# Altium schematic symbol library jlcpcb_2025_04_inductors_extended_0201.schlib: 459 symbols (part 8 of 9)
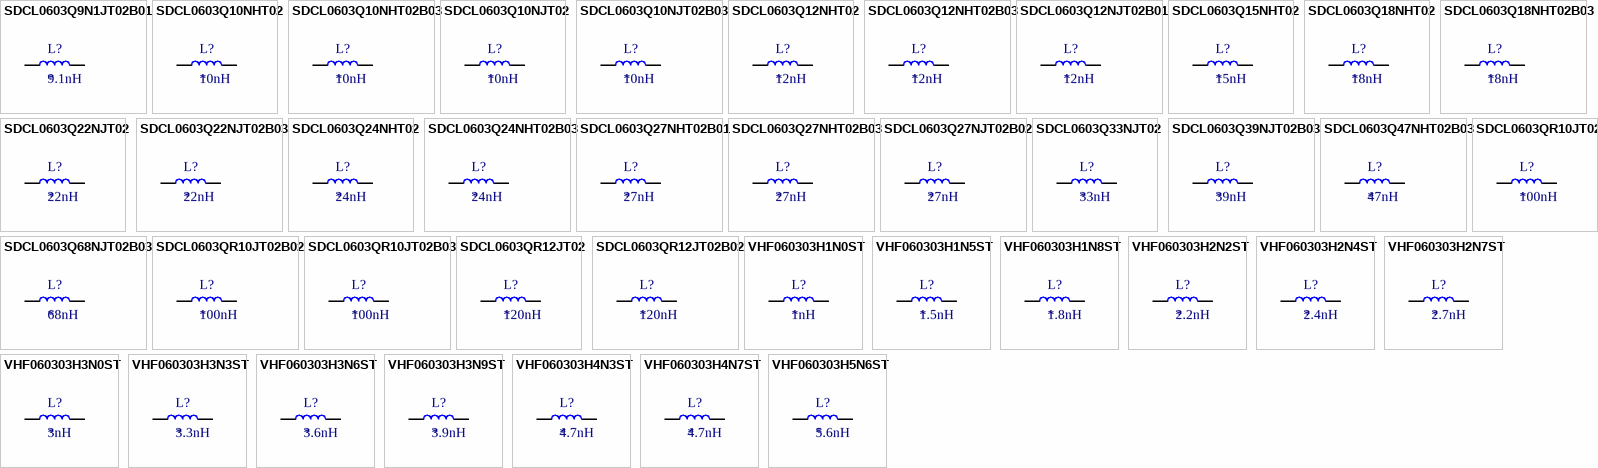
[diagram p18: symbols SDCL0603Q9N1JT02B01 to VHF060303H5N6ST]

## VHF060303H2N2ST
designator L?  Inductance: 2.2nH
Inductor, 2.2nH, 190mΩ, 360mA, SMD 0201; Manufacturer: FH (Guangdong Fenghua Advanced Tech); Manufacturer Part Number: VHF060303H2N2ST; Package Size: 0201; JLCPCB Basic Part: No; JLCPCB Part Number: C142497; Supplier 1: LCSC; Category: Inductors; Supplier Part Number 1: C142497; Rated Current: 360mA; DC Resistance: 190mΩ; RoHS: Yes; ComponentLink1Description: Datasheet; ComponentLink1URL: https://wmsc.lcsc.com/wmsc/upload/file/pdf/v2/lcsc/2304140030_FH--Guangdong-Fenghua-Advanced-Tech-VHF060303H2N2ST_C142497.pdf; ComponentLink2Description: JLCPCB Part URL; ComponentLink2URL: https://jlcpcb.com/partdetail/C142497; ComponentLink3Description: LCSC Part URL; ComponentLink3URL: https://lcsc.com/product-detail/Inductors-SMD_FH-Guangdong-Fenghua-Advanced-Tech-FH-Guangdong-Fenghua-Advanced-Tech-VHF060303H2N2ST_C142497.html
footprint IND-0201 (0201 (0603M) Inductor)
pins: 1, 2

## VHF060303H2N4ST
designator L?  Inductance: 2.4nH
Inductor, 2.4nH, 200mΩ, 350mA, SMD 0201; Manufacturer: FH(Guangdong Fenghua Advanced Tech); Manufacturer Part Number: VHF060303H2N4ST; Package Size: 0201; JLCPCB Basic Part: No; JLCPCB Part Number: C142498; Supplier 1: LCSC; Category: Inductors; Supplier Part Number 1: C142498; Rated Current: 350mA; DC Resistance: 200mΩ; RoHS: Yes; ComponentLink1Description: Datasheet; ComponentLink1URL: https://wmsc.lcsc.com/wmsc/upload/file/pdf/v2/lcsc/2304140030_FH--Guangdong-Fenghua-Advanced-Tech-VHF060303H2N4ST_C142498.pdf; ComponentLink2Description: JLCPCB Part URL; ComponentLink2URL: https://jlcpcb.com/partdetail/C142498; ComponentLink3Description: LCSC Part URL; ComponentLink3URL: https://lcsc.com/product-detail/Inductors-SMD_FH-Guangdong-Fenghua-Advanced-Tech-FH-Guangdong-Fenghua-Advanced-Tech-VHF060303H2N4ST_C142498.html
footprint IND-0201 (0201 (0603M) Inductor)
pins: 1, 2

## VHF060303H2N7ST
designator L?  Inductance: 2.7nH
Inductor, 2.7nH, 210mΩ, 340mA, SMD 0201; Manufacturer: FH(Guangdong Fenghua Advanced Tech); Manufacturer Part Number: VHF060303H2N7ST; Package Size: 0201; JLCPCB Basic Part: No; JLCPCB Part Number: C142499; Supplier 1: LCSC; Category: Inductors; Supplier Part Number 1: C142499; Rated Current: 340mA; DC Resistance: 210mΩ; RoHS: Yes; ComponentLink1Description: Datasheet; ComponentLink1URL: https://wmsc.lcsc.com/wmsc/upload/file/pdf/v2/lcsc/2304140030_FH--Guangdong-Fenghua-Advanced-Tech-VHF060303H2N7ST_C142499.pdf; ComponentLink2Description: JLCPCB Part URL; ComponentLink2URL: https://jlcpcb.com/partdetail/C142499; ComponentLink3Description: LCSC Part URL; ComponentLink3URL: https://lcsc.com/product-detail/Inductors-SMD_FH-Guangdong-Fenghua-Advanced-Tech-FH-Guangdong-Fenghua-Advanced-Tech-VHF060303H2N7ST_C142499.html
footprint IND-0201 (0201 (0603M) Inductor)
pins: 1, 2

## VHF060303H3N0ST
designator L?  Inductance: 3nH
Inductor, 3nH, 220mΩ, 330mA, SMD 0201; Manufacturer: FH(Guangdong Fenghua Advanced Tech); Manufacturer Part Number: VHF060303H3N0ST; Package Size: 0201; JLCPCB Basic Part: No; JLCPCB Part Number: C142500; Supplier 1: LCSC; Category: Inductors; Supplier Part Number 1: C142500; Rated Current: 330mA; DC Resistance: 220mΩ; RoHS: Yes; ComponentLink1Description: Datasheet; ComponentLink1URL: https://wmsc.lcsc.com/wmsc/upload/file/pdf/v2/lcsc/2304140030_FH--Guangdong-Fenghua-Advanced-Tech-VHF060303H3N0ST_C142500.pdf; ComponentLink2Description: JLCPCB Part URL; ComponentLink2URL: https://jlcpcb.com/partdetail/C142500; ComponentLink3Description: LCSC Part URL; ComponentLink3URL: https://lcsc.com/product-detail/Inductors-SMD_FH-Guangdong-Fenghua-Advanced-Tech-FH-Guangdong-Fenghua-Advanced-Tech-VHF060303H3N0ST_C142500.html
footprint IND-0201 (0201 (0603M) Inductor)
pins: 1, 2

## VHF060303H3N3ST
designator L?  Inductance: 3.3nH
Inductor, 3.3nH, 230mΩ, 320mA, SMD 0201; Manufacturer: FH(Guangdong Fenghua Advanced Tech); Manufacturer Part Number: VHF060303H3N3ST; Package Size: 0201; JLCPCB Basic Part: No; JLCPCB Part Number: C142501; Supplier 1: LCSC; Category: Inductors; Supplier Part Number 1: C142501; Rated Current: 320mA; DC Resistance: 230mΩ; RoHS: Yes; ComponentLink1Description: Datasheet; ComponentLink1URL: https://wmsc.lcsc.com/wmsc/upload/file/pdf/v2/lcsc/2304140030_FH--Guangdong-Fenghua-Advanced-Tech-VHF060303H3N3ST_C142501.pdf; ComponentLink2Description: JLCPCB Part URL; ComponentLink2URL: https://jlcpcb.com/partdetail/C142501; ComponentLink3Description: LCSC Part URL; ComponentLink3URL: https://lcsc.com/product-detail/Inductors-SMD_FH-Guangdong-Fenghua-Advanced-Tech-FH-Guangdong-Fenghua-Advanced-Tech-VHF060303H3N3ST_C142501.html
footprint IND-0201 (0201 (0603M) Inductor)
pins: 1, 2

## VHF060303H3N6ST
designator L?  Inductance: 3.6nH
Inductor, 3.6nH, 250mΩ, 310mA, SMD 0201; Manufacturer: FH(Guangdong Fenghua Advanced Tech); Manufacturer Part Number: VHF060303H3N6ST; Package Size: 0201; JLCPCB Basic Part: No; JLCPCB Part Number: C142502; Supplier 1: LCSC; Category: Inductors; Supplier Part Number 1: C142502; Rated Current: 310mA; DC Resistance: 250mΩ; RoHS: Yes; ComponentLink1Description: Datasheet; ComponentLink1URL: https://wmsc.lcsc.com/wmsc/upload/file/pdf/v2/lcsc/2304140030_FH--Guangdong-Fenghua-Advanced-Tech-VHF060303H3N6ST_C142502.pdf; ComponentLink2Description: JLCPCB Part URL; ComponentLink2URL: https://jlcpcb.com/partdetail/C142502; ComponentLink3Description: LCSC Part URL; ComponentLink3URL: https://lcsc.com/product-detail/Inductors-SMD_FH-Guangdong-Fenghua-Advanced-Tech-FH-Guangdong-Fenghua-Advanced-Tech-VHF060303H3N6ST_C142502.html
footprint IND-0201 (0201 (0603M) Inductor)
pins: 1, 2

## VHF060303H3N9ST
designator L?  Inductance: 3.9nH
Inductor, 3.9nH, 270mΩ, 300mA, SMD 0201; Manufacturer: FH(Guangdong Fenghua Advanced Tech); Manufacturer Part Number: VHF060303H3N9ST; Package Size: 0201; JLCPCB Basic Part: No; JLCPCB Part Number: C142503; Supplier 1: LCSC; Category: Inductors; Supplier Part Number 1: C142503; Rated Current: 300mA; DC Resistance: 270mΩ; RoHS: Yes; ComponentLink1Description: Datasheet; ComponentLink1URL: https://wmsc.lcsc.com/wmsc/upload/file/pdf/v2/lcsc/2304140030_FH--Guangdong-Fenghua-Advanced-Tech-VHF060303H3N9ST_C142503.pdf; ComponentLink2Description: JLCPCB Part URL; ComponentLink2URL: https://jlcpcb.com/partdetail/C142503; ComponentLink3Description: LCSC Part URL; ComponentLink3URL: https://lcsc.com/product-detail/Inductors-SMD_FH-Guangdong-Fenghua-Advanced-Tech-FH-Guangdong-Fenghua-Advanced-Tech-VHF060303H3N9ST_C142503.html
footprint IND-0201 (0201 (0603M) Inductor)
pins: 1, 2

## VHF060303H4N3ST
designator L?  Inductance: 4.7nH
Inductor, 4.7nH, 300mΩ, 280mA, SMD 0201; Manufacturer: FH(Guangdong Fenghua Advanced Tech); Manufacturer Part Number: VHF060303H4N3ST; Package Size: 0201; JLCPCB Basic Part: No; JLCPCB Part Number: C142504; Supplier 1: LCSC; Category: Inductors; Supplier Part Number 1: C142504; Rated Current: 280mA; DC Resistance: 300mΩ; RoHS: Yes; ComponentLink1Description: Datasheet; ComponentLink1URL: https://wmsc.lcsc.com/wmsc/upload/file/pdf/v2/lcsc/2304140030_FH--Guangdong-Fenghua-Advanced-Tech-VHF060303H4N3ST_C142504.pdf; ComponentLink2Description: JLCPCB Part URL; ComponentLink2URL: https://jlcpcb.com/partdetail/C142504; ComponentLink3Description: LCSC Part URL; ComponentLink3URL: https://lcsc.com/product-detail/Inductors-SMD_FH-Guangdong-Fenghua-Advanced-Tech-FH-Guangdong-Fenghua-Advanced-Tech-VHF060303H4N3ST_C142504.html
footprint IND-0201 (0201 (0603M) Inductor)
pins: 1, 2

## VHF060303H4N7ST
designator L?  Inductance: 4.7nH
Inductor, 4.7nH, 300mΩ, 280mA, SMD 0201; Manufacturer: FH(Guangdong Fenghua Advanced Tech); Manufacturer Part Number: VHF060303H4N7ST; Package Size: 0201; JLCPCB Basic Part: No; JLCPCB Part Number: C142505; Supplier 1: LCSC; Category: Inductors; Supplier Part Number 1: C142505; Rated Current: 280mA; DC Resistance: 300mΩ; RoHS: Yes; ComponentLink1Description: Datasheet; ComponentLink1URL: https://wmsc.lcsc.com/wmsc/upload/file/pdf/v2/lcsc/2304140030_FH--Guangdong-Fenghua-Advanced-Tech-VHF060303H4N7ST_C142505.pdf; ComponentLink2Description: JLCPCB Part URL; ComponentLink2URL: https://jlcpcb.com/partdetail/C142505; ComponentLink3Description: LCSC Part URL; ComponentLink3URL: https://lcsc.com/product-detail/Inductors-SMD_FH-Guangdong-Fenghua-Advanced-Tech-FH-Guangdong-Fenghua-Advanced-Tech-VHF060303H4N7ST_C142505.html
footprint IND-0201 (0201 (0603M) Inductor)
pins: 1, 2

## VHF060303H5N6ST
designator L?  Inductance: 5.6nH
Inductor, 5.6nH, 360mΩ, 260mA, SMD 0201; Manufacturer: FH(Guangdong Fenghua Advanced Tech); Manufacturer Part Number: VHF060303H5N6ST; Package Size: 0201; JLCPCB Basic Part: No; JLCPCB Part Number: C142507; Supplier 1: LCSC; Category: Inductors; Supplier Part Number 1: C142507; Rated Current: 260mA; DC Resistance: 360mΩ; RoHS: Yes; ComponentLink1Description: Datasheet; ComponentLink1URL: https://wmsc.lcsc.com/wmsc/upload/file/pdf/v2/lcsc/2304140030_FH--Guangdong-Fenghua-Advanced-Tech-VHF060303H5N6ST_C142507.pdf; ComponentLink2Description: JLCPCB Part URL; ComponentLink2URL: https://jlcpcb.com/partdetail/C142507; ComponentLink3Description: LCSC Part URL; ComponentLink3URL: https://lcsc.com/product-detail/Inductors-SMD_FH-Guangdong-Fenghua-Advanced-Tech-FH-Guangdong-Fenghua-Advanced-Tech-VHF060303H5N6ST_C142507.html
footprint IND-0201 (0201 (0603M) Inductor)
pins: 1, 2

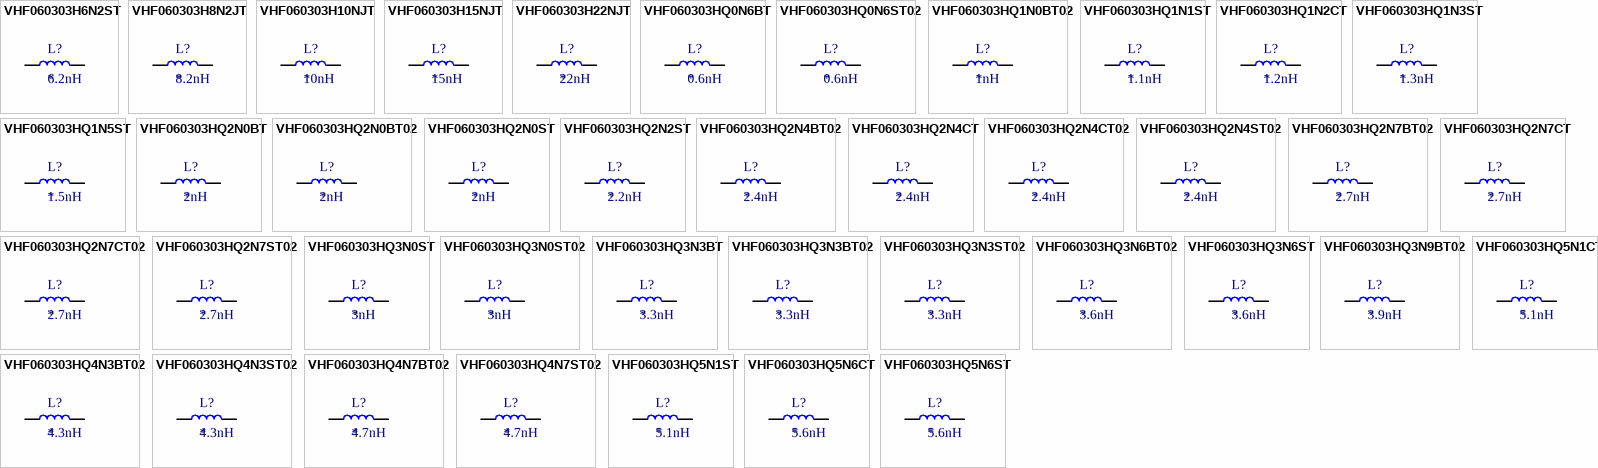
[diagram p10: symbols VHF060303H6N2ST to VHF060303HQ5N6ST]

## VHF060303H6N2ST
designator L?  Inductance: 6.2nH
Inductor, 6.2nH, 380mΩ, 250mA, SMD 0201; Manufacturer: FH(Guangdong Fenghua Advanced Tech); Manufacturer Part Number: VHF060303H6N2ST; Package Size: 0201; JLCPCB Basic Part: No; JLCPCB Part Number: C142508; Supplier 1: LCSC; Category: Inductors; Supplier Part Number 1: C142508; Rated Current: 250mA; DC Resistance: 380mΩ; RoHS: Yes; ComponentLink1Description: Datasheet; ComponentLink1URL: https://wmsc.lcsc.com/wmsc/upload/file/pdf/v2/lcsc/2304140030_FH--Guangdong-Fenghua-Advanced-Tech-VHF060303H6N2ST_C142508.pdf; ComponentLink2Description: JLCPCB Part URL; ComponentLink2URL: https://jlcpcb.com/partdetail/C142508; ComponentLink3Description: LCSC Part URL; ComponentLink3URL: https://lcsc.com/product-detail/Inductors-SMD_FH-Guangdong-Fenghua-Advanced-Tech-FH-Guangdong-Fenghua-Advanced-Tech-VHF060303H6N2ST_C142508.html
footprint IND-0201 (0201 (0603M) Inductor)
pins: 1, 2

## VHF060303H8N2JT
designator L?  Inductance: 8.2nH
Inductor, 8.2nH, ±5%, 450mΩ, 230mA, SMD 0201; Manufacturer: FH(Guangdong Fenghua Advanced Tech); Manufacturer Part Number: VHF060303H8N2JT; Package Size: 0201; JLCPCB Basic Part: No; JLCPCB Part Number: C142511; Supplier 1: LCSC; Category: Inductors; Supplier Part Number 1: C142511; Tolerance: ±5%; Rated Current: 230mA; DC Resistance: 450mΩ; RoHS: Yes; ComponentLink1Description: Datasheet; ComponentLink1URL: https://wmsc.lcsc.com/wmsc/upload/file/pdf/v2/lcsc/2304140030_FH--Guangdong-Fenghua-Advanced-Tech-VHF060303H8N2JT_C142511.pdf; ComponentLink2Description: JLCPCB Part URL; ComponentLink2URL: https://jlcpcb.com/partdetail/C142511; ComponentLink3Description: LCSC Part URL; ComponentLink3URL: https://lcsc.com/product-detail/Inductors-SMD_FH-Guangdong-Fenghua-Advanced-Tech-FH-Guangdong-Fenghua-Advanced-Tech-VHF060303H8N2JT_C142511.html
footprint IND-0201 (0201 (0603M) Inductor)
pins: 1, 2

## VHF060303H10NJT
designator L?  Inductance: 10nH
Inductor, 10nH, ±5%, 510mΩ, 220mA, SMD 0201; Manufacturer: FH(Guangdong Fenghua Advanced Tech); Manufacturer Part Number: VHF060303H10NJT; Package Size: 0201; JLCPCB Basic Part: No; JLCPCB Part Number: C142512; Supplier 1: LCSC; Category: Inductors; Supplier Part Number 1: C142512; Tolerance: ±5%; Rated Current: 220mA; DC Resistance: 510mΩ; RoHS: Yes; ComponentLink1Description: Datasheet; ComponentLink1URL: https://wmsc.lcsc.com/wmsc/upload/file/pdf/v2/lcsc/2304140030_FH--Guangdong-Fenghua-Advanced-Tech-VHF060303H10NJT_C142512.pdf; ComponentLink2Description: JLCPCB Part URL; ComponentLink2URL: https://jlcpcb.com/partdetail/C142512; ComponentLink3Description: LCSC Part URL; ComponentLink3URL: https://lcsc.com/product-detail/Inductors-SMD_FH-Guangdong-Fenghua-Advanced-Tech-FH-Guangdong-Fenghua-Advanced-Tech-VHF060303H10NJT_C142512.html
footprint IND-0201 (0201 (0603M) Inductor)
pins: 1, 2

## VHF060303H15NJT
designator L?  Inductance: 15nH
Inductor, 15nH, ±5%, 710mΩ, 180mA, SMD 0201; Manufacturer: FH(Guangdong Fenghua Advanced Tech); Manufacturer Part Number: VHF060303H15NJT; Package Size: 0201; JLCPCB Basic Part: No; JLCPCB Part Number: C142514; Supplier 1: LCSC; Category: Inductors; Supplier Part Number 1: C142514; Tolerance: ±5%; Rated Current: 180mA; DC Resistance: 710mΩ; RoHS: Yes; ComponentLink1Description: Datasheet; ComponentLink1URL: https://wmsc.lcsc.com/wmsc/upload/file/pdf/v2/lcsc/2304140030_FH--Guangdong-Fenghua-Advanced-Tech-VHF060303H15NJT_C142514.pdf; ComponentLink2Description: JLCPCB Part URL; ComponentLink2URL: https://jlcpcb.com/partdetail/C142514; ComponentLink3Description: LCSC Part URL; ComponentLink3URL: https://lcsc.com/product-detail/Inductors-SMD_FH-Guangdong-Fenghua-Advanced-Tech-FH-Guangdong-Fenghua-Advanced-Tech-VHF060303H15NJT_C142514.html
footprint IND-0201 (0201 (0603M) Inductor)
pins: 1, 2

## VHF060303H22NJT
designator L?  Inductance: 22nH
Inductor, 22nH, ±5%, 1Ω, 150mA, SMD 0201; Manufacturer: FH(Guangdong Fenghua Advanced Tech); Manufacturer Part Number: VHF060303H22NJT; Package Size: 0201; JLCPCB Basic Part: No; JLCPCB Part Number: C142515; Supplier 1: LCSC; Category: Inductors; Supplier Part Number 1: C142515; Tolerance: ±5%; Rated Current: 150mA; DC Resistance: 1Ω; RoHS: Yes; ComponentLink1Description: Datasheet; ComponentLink1URL: https://wmsc.lcsc.com/wmsc/upload/file/pdf/v2/lcsc/2304140030_FH--Guangdong-Fenghua-Advanced-Tech-VHF060303H22NJT_C142515.pdf; ComponentLink2Description: JLCPCB Part URL; ComponentLink2URL: https://jlcpcb.com/partdetail/C142515; ComponentLink3Description: LCSC Part URL; ComponentLink3URL: https://lcsc.com/product-detail/Inductors-SMD_FH-Guangdong-Fenghua-Advanced-Tech-FH-Guangdong-Fenghua-Advanced-Tech-VHF060303H22NJT_C142515.html
footprint IND-0201 (0201 (0603M) Inductor)
pins: 1, 2

## VHF060303HQ0N6BT
designator L?  Inductance: 0.6nH
Inductor, 0.6nH, 60mΩ, 600mA, SMD 0201; Manufacturer: FH (Guangdong Fenghua Advanced Tech); Manufacturer Part Number: VHF060303HQ0N6BT; Self-Resonant Frequency: 10GHz; Q Factor: 14@500MHz; Package Size: 0201; JLCPCB Basic Part: No; JLCPCB Part Number: C485778; Supplier 1: LCSC; Category: Inductors; Supplier Part Number 1: C485778; Rated Current: 600mA; DC Resistance: 60mΩ; RoHS: Yes; ComponentLink1Description: Datasheet; ComponentLink1URL: https://wmsc.lcsc.com/wmsc/upload/file/pdf/v2/lcsc/2302231130_FH--Guangdong-Fenghua-Advanced-Tech-VHF060303HQ0N6BT_C485778.pdf; ComponentLink2Description: JLCPCB Part URL; ComponentLink2URL: https://jlcpcb.com/partdetail/C485778; ComponentLink3Description: LCSC Part URL; ComponentLink3URL: https://lcsc.com/product-detail/Inductors-SMD_FH-Guangdong-Fenghua-Advanced-Tech-FH-Guangdong-Fenghua-Advanced-Tech-VHF060303HQ0N6BT_C485778.html
footprint IND-0201 (0201 (0603M) Inductor)
pins: 1, 2

## VHF060303HQ0N6ST02
designator L?  Inductance: 0.6nH
Inductor, 0.6nH, SMD 0201; Manufacturer: FH (Guangdong Fenghua Advanced Tech); Manufacturer Part Number: VHF060303HQ0N6ST02; Package Size: 0201; JLCPCB Basic Part: No; JLCPCB Part Number: C516456; Supplier 1: LCSC; Category: Inductors; Supplier Part Number 1: C516456; RoHS: Yes; ComponentLink1Description: Datasheet; ComponentLink1URL: https://wmsc.lcsc.com/wmsc/upload/file/pdf/v2/lcsc/2302231130_FH--Guangdong-Fenghua-Advanced-Tech-VHF060303HQ0N6ST02_C516456.pdf; ComponentLink2Description: JLCPCB Part URL; ComponentLink2URL: https://jlcpcb.com/partdetail/C516456; ComponentLink3Description: LCSC Part URL; ComponentLink3URL: https://lcsc.com/product-detail/Inductors-SMD_FH-Guangdong-Fenghua-Advanced-Tech-FH-Guangdong-Fenghua-Advanced-Tech-VHF060303HQ0N6ST02_C516456.html
footprint IND-0201 (0201 (0603M) Inductor)
pins: 1, 2

## VHF060303HQ1N0BT02
designator L?  Inductance: 1nH
Inductor, 1nH, SMD 0201; Manufacturer: FH (Guangdong Fenghua Advanced Tech); Manufacturer Part Number: VHF060303HQ1N0BT02; Package Size: 0201; JLCPCB Basic Part: No; JLCPCB Part Number: C778439; Supplier 1: LCSC; Category: Inductors; Supplier Part Number 1: C778439; RoHS: Yes; ComponentLink1Description: Datasheet; ComponentLink1URL: https://wmsc.lcsc.com/wmsc/upload/file/pdf/v2/lcsc/2302231030_FH--Guangdong-Fenghua-Advanced-Tech-VHF060303HQ1N0BT02_C778439.pdf; ComponentLink2Description: JLCPCB Part URL; ComponentLink2URL: https://jlcpcb.com/partdetail/C778439; ComponentLink3Description: LCSC Part URL; ComponentLink3URL: https://lcsc.com/product-detail/Inductors-SMD_FH-Guangdong-Fenghua-Advanced-Tech-FH-Guangdong-Fenghua-Advanced-Tech-VHF060303HQ1N0BT02_C778439.html
footprint IND-0201 (0201 (0603M) Inductor)
pins: 1, 2

## VHF060303HQ1N1ST
designator L?  Inductance: 1.1nH
Inductor, 1.1nH, 110mΩ, 440mA, SMD 0201; Manufacturer: FH (Guangdong Fenghua Advanced Tech); Manufacturer Part Number: VHF060303HQ1N1ST; Package Size: 0201; JLCPCB Basic Part: No; JLCPCB Part Number: C381708; Supplier 1: LCSC; Category: Inductors; Supplier Part Number 1: C381708; Rated Current: 440mA; DC Resistance: 110mΩ; RoHS: Yes; ComponentLink1Description: Datasheet; ComponentLink1URL: https://wmsc.lcsc.com/wmsc/upload/file/pdf/v2/lcsc/2302231208_FH--Guangdong-Fenghua-Advanced-Tech-VHF060303HQ1N1ST_C381708.pdf; ComponentLink2Description: JLCPCB Part URL; ComponentLink2URL: https://jlcpcb.com/partdetail/C381708; ComponentLink3Description: LCSC Part URL; ComponentLink3URL: https://lcsc.com/product-detail/Inductors-SMD_FH-Guangdong-Fenghua-Advanced-Tech-FH-Guangdong-Fenghua-Advanced-Tech-VHF060303HQ1N1ST_C381708.html
footprint IND-0201 (0201 (0603M) Inductor)
pins: 1, 2

## VHF060303HQ1N2CT
designator L?  Inductance: 1.2nH
Inductor, 1.2nH, 120mΩ, 420mA, SMD 0201; Manufacturer: FH (Guangdong Fenghua Advanced Tech); Manufacturer Part Number: VHF060303HQ1N2CT; Self-Resonant Frequency: 10GHz; Q Factor: 14@500MHz; Package Size: 0201; JLCPCB Basic Part: No; JLCPCB Part Number: C485789; Supplier 1: LCSC; Category: Inductors; Supplier Part Number 1: C485789; Rated Current: 420mA; DC Resistance: 120mΩ; RoHS: Yes; ComponentLink1Description: Datasheet; ComponentLink1URL: https://wmsc.lcsc.com/wmsc/upload/file/pdf/v2/lcsc/2302231130_FH--Guangdong-Fenghua-Advanced-Tech-VHF060303HQ1N2CT_C485789.pdf; ComponentLink2Description: JLCPCB Part URL; ComponentLink2URL: https://jlcpcb.com/partdetail/C485789; ComponentLink3Description: LCSC Part URL; ComponentLink3URL: https://lcsc.com/product-detail/Inductors-SMD_FH-Guangdong-Fenghua-Advanced-Tech-FH-Guangdong-Fenghua-Advanced-Tech-VHF060303HQ1N2CT_C485789.html
footprint IND-0201 (0201 (0603M) Inductor)
pins: 1, 2

## VHF060303HQ1N3ST
designator L?  Inductance: 1.3nH
Inductor, 1.3nH, 120mΩ, 420mA, SMD 0201; Manufacturer: FH(Guangdong Fenghua Advanced Tech); Manufacturer Part Number: VHF060303HQ1N3ST; Package Size: 0201; JLCPCB Basic Part: No; JLCPCB Part Number: C395045; Supplier 1: LCSC; Category: Inductors; Supplier Part Number 1: C395045; Rated Current: 420mA; DC Resistance: 120mΩ; RoHS: Yes; ComponentLink1Description: Datasheet; ComponentLink1URL: https://wmsc.lcsc.com/wmsc/upload/file/pdf/v2/lcsc/2302231208_FH--Guangdong-Fenghua-Advanced-Tech-VHF060303HQ1N3ST_C395045.pdf; ComponentLink2Description: JLCPCB Part URL; ComponentLink2URL: https://jlcpcb.com/partdetail/C395045; ComponentLink3Description: LCSC Part URL; ComponentLink3URL: https://lcsc.com/product-detail/Inductors-SMD_FH-Guangdong-Fenghua-Advanced-Tech-FH-Guangdong-Fenghua-Advanced-Tech-VHF060303HQ1N3ST_C395045.html
footprint IND-0201 (0201 (0603M) Inductor)
pins: 1, 2

## VHF060303HQ1N5ST
designator L?  Inductance: 1.5nH
Inductor, 1.5nH, 120mΩ, 420mA, SMD 0201; Manufacturer: FH (Guangdong Fenghua Advanced Tech); Manufacturer Part Number: VHF060303HQ1N5ST; Package Size: 0201; JLCPCB Basic Part: No; JLCPCB Part Number: C211312; Supplier 1: LCSC; Category: Inductors; Supplier Part Number 1: C211312; Rated Current: 420mA; DC Resistance: 120mΩ; RoHS: Yes; ComponentLink1Description: Datasheet; ComponentLink1URL: https://wmsc.lcsc.com/wmsc/upload/file/pdf/v2/lcsc/2302231230_FH--Guangdong-Fenghua-Advanced-Tech-VHF060303HQ1N5ST_C211312.pdf; ComponentLink2Description: JLCPCB Part URL; ComponentLink2URL: https://jlcpcb.com/partdetail/C211312; ComponentLink3Description: LCSC Part URL; ComponentLink3URL: https://lcsc.com/product-detail/Inductors-SMD_FH-Guangdong-Fenghua-Advanced-Tech-FH-Guangdong-Fenghua-Advanced-Tech-VHF060303HQ1N5ST_C211312.html
footprint IND-0201 (0201 (0603M) Inductor)
pins: 1, 2

## VHF060303HQ2N0BT
designator L?  Inductance: 2nH
Inductor, 2nH, 230mΩ, 300mA, SMD 0201; Manufacturer: FH (Guangdong Fenghua Advanced Tech); Manufacturer Part Number: VHF060303HQ2N0BT; Self-Resonant Frequency: 10GHz; Q Factor: 14@500MHz; Package Size: 0201; JLCPCB Basic Part: No; JLCPCB Part Number: C485788; Supplier 1: LCSC; Category: Inductors; Supplier Part Number 1: C485788; Rated Current: 300mA; DC Resistance: 230mΩ; RoHS: Yes; ComponentLink1Description: Datasheet; ComponentLink1URL: https://wmsc.lcsc.com/wmsc/upload/file/pdf/v2/lcsc/2302231130_FH--Guangdong-Fenghua-Advanced-Tech-VHF060303HQ2N0BT_C485788.pdf; ComponentLink2Description: JLCPCB Part URL; ComponentLink2URL: https://jlcpcb.com/partdetail/C485788; ComponentLink3Description: LCSC Part URL; ComponentLink3URL: https://lcsc.com/product-detail/Inductors-SMD_FH-Guangdong-Fenghua-Advanced-Tech-FH-Guangdong-Fenghua-Advanced-Tech-VHF060303HQ2N0BT_C485788.html
footprint IND-0201 (0201 (0603M) Inductor)
pins: 1, 2

## VHF060303HQ2N0BT02
designator L?  Inductance: 2nH
Inductor, 2nH, 230mΩ, 400mA, SMD 0201; Manufacturer: FH (Guangdong Fenghua Advanced Tech); Manufacturer Part Number: VHF060303HQ2N0BT02; Self-Resonant Frequency: 10GHz; Q Factor: 14@500MHz; Package Size: 0201; JLCPCB Basic Part: No; JLCPCB Part Number: C485793; Supplier 1: LCSC; Category: Inductors; Supplier Part Number 1: C485793; Rated Current: 400mA; DC Resistance: 230mΩ; RoHS: Yes; ComponentLink1Description: Datasheet; ComponentLink1URL: https://wmsc.lcsc.com/wmsc/upload/file/pdf/v2/lcsc/2302231130_FH--Guangdong-Fenghua-Advanced-Tech-VHF060303HQ2N0BT02_C485793.pdf; ComponentLink2Description: JLCPCB Part URL; ComponentLink2URL: https://jlcpcb.com/partdetail/C485793; ComponentLink3Description: LCSC Part URL; ComponentLink3URL: https://lcsc.com/product-detail/Inductors-SMD_FH-Guangdong-Fenghua-Advanced-Tech-FH-Guangdong-Fenghua-Advanced-Tech-VHF060303HQ2N0BT02_C485793.html
footprint IND-0201 (0201 (0603M) Inductor)
pins: 1, 2

## VHF060303HQ2N0ST
designator L?  Inductance: 2nH
Inductor, 2nH, 200mΩ, 360mA, SMD 0201; Manufacturer: FH (Guangdong Fenghua Advanced Tech); Manufacturer Part Number: VHF060303HQ2N0ST; Package Size: 0201; JLCPCB Basic Part: No; JLCPCB Part Number: C211314; Supplier 1: LCSC; Category: Inductors; Supplier Part Number 1: C211314; Rated Current: 360mA; DC Resistance: 200mΩ; RoHS: Yes; ComponentLink1Description: Datasheet; ComponentLink1URL: https://wmsc.lcsc.com/wmsc/upload/file/pdf/v2/lcsc/2302231230_FH--Guangdong-Fenghua-Advanced-Tech-VHF060303HQ2N0ST_C211314.pdf; ComponentLink2Description: JLCPCB Part URL; ComponentLink2URL: https://jlcpcb.com/partdetail/C211314; ComponentLink3Description: LCSC Part URL; ComponentLink3URL: https://lcsc.com/product-detail/Inductors-SMD_FH-Guangdong-Fenghua-Advanced-Tech-FH-Guangdong-Fenghua-Advanced-Tech-VHF060303HQ2N0ST_C211314.html
footprint IND-0201 (0201 (0603M) Inductor)
pins: 1, 2

## VHF060303HQ2N2ST
designator L?  Inductance: 2.2nH
Inductor, 2.2nH, 200mΩ, 350mA, SMD 0201; Manufacturer: FH (Guangdong Fenghua Advanced Tech); Manufacturer Part Number: VHF060303HQ2N2ST; Package Size: 0201; JLCPCB Basic Part: No; JLCPCB Part Number: C211315; Supplier 1: LCSC; Category: Inductors; Supplier Part Number 1: C211315; Rated Current: 350mA; DC Resistance: 200mΩ; RoHS: Yes; ComponentLink1Description: Datasheet; ComponentLink1URL: https://wmsc.lcsc.com/wmsc/upload/file/pdf/v2/lcsc/2302231230_FH--Guangdong-Fenghua-Advanced-Tech-VHF060303HQ2N2ST_C211315.pdf; ComponentLink2Description: JLCPCB Part URL; ComponentLink2URL: https://jlcpcb.com/partdetail/C211315; ComponentLink3Description: LCSC Part URL; ComponentLink3URL: https://lcsc.com/product-detail/Inductors-SMD_FH-Guangdong-Fenghua-Advanced-Tech-FH-Guangdong-Fenghua-Advanced-Tech-VHF060303HQ2N2ST_C211315.html
footprint IND-0201 (0201 (0603M) Inductor)
pins: 1, 2

## VHF060303HQ2N4BT02
designator L?  Inductance: 2.4nH
Inductor, 2.4nH, SMD 0201; Manufacturer: FH (Guangdong Fenghua Advanced Tech); Manufacturer Part Number: VHF060303HQ2N4BT02; Package Size: 0201; JLCPCB Basic Part: No; JLCPCB Part Number: C485794; Supplier 1: LCSC; Category: Inductors; Supplier Part Number 1: C485794; RoHS: Yes; ComponentLink1Description: Datasheet; ComponentLink1URL: https://wmsc.lcsc.com/wmsc/upload/file/pdf/v2/lcsc/2302231130_FH--Guangdong-Fenghua-Advanced-Tech-VHF060303HQ2N4BT02_C485794.pdf; ComponentLink2Description: JLCPCB Part URL; ComponentLink2URL: https://jlcpcb.com/partdetail/C485794; ComponentLink3Description: LCSC Part URL; ComponentLink3URL: https://lcsc.com/product-detail/Inductors-SMD_FH-Guangdong-Fenghua-Advanced-Tech-FH-Guangdong-Fenghua-Advanced-Tech-VHF060303HQ2N4BT02_C485794.html
footprint IND-0201 (0201 (0603M) Inductor)
pins: 1, 2

## VHF060303HQ2N4CT
designator L?  Inductance: 2.4nH
Inductor, 2.4nH, 250mΩ, 290mA, SMD 0201; Manufacturer: FH (Guangdong Fenghua Advanced Tech); Manufacturer Part Number: VHF060303HQ2N4CT; Self-Resonant Frequency: 10GHz; Q Factor: 14@500MHz; Package Size: 0201; JLCPCB Basic Part: No; JLCPCB Part Number: C516455; Supplier 1: LCSC; Category: Inductors; Supplier Part Number 1: C516455; Rated Current: 290mA; DC Resistance: 250mΩ; RoHS: Yes; ComponentLink1Description: Datasheet; ComponentLink1URL: https://wmsc.lcsc.com/wmsc/upload/file/pdf/v2/lcsc/2302231130_FH--Guangdong-Fenghua-Advanced-Tech-VHF060303HQ2N4CT_C516455.pdf; ComponentLink2Description: JLCPCB Part URL; ComponentLink2URL: https://jlcpcb.com/partdetail/C516455; ComponentLink3Description: LCSC Part URL; ComponentLink3URL: https://lcsc.com/product-detail/Inductors-SMD_FH-Guangdong-Fenghua-Advanced-Tech-FH-Guangdong-Fenghua-Advanced-Tech-VHF060303HQ2N4CT_C516455.html
footprint IND-0201 (0201 (0603M) Inductor)
pins: 1, 2

## VHF060303HQ2N4CT02
designator L?  Inductance: 2.4nH
Inductor, 2.4nH, SMD 0201; Manufacturer: FH (Guangdong Fenghua Advanced Tech); Manufacturer Part Number: VHF060303HQ2N4CT02; Package Size: 0201; JLCPCB Basic Part: No; JLCPCB Part Number: C516464; Supplier 1: LCSC; Category: Inductors; Supplier Part Number 1: C516464; RoHS: Yes; ComponentLink1Description: Datasheet; ComponentLink1URL: https://wmsc.lcsc.com/wmsc/upload/file/pdf/v2/lcsc/2302231030_FH--Guangdong-Fenghua-Advanced-Tech-VHF060303HQ2N4CT02_C516464.pdf; ComponentLink2Description: JLCPCB Part URL; ComponentLink2URL: https://jlcpcb.com/partdetail/C516464; ComponentLink3Description: LCSC Part URL; ComponentLink3URL: https://lcsc.com/product-detail/Inductors-SMD_FH-Guangdong-Fenghua-Advanced-Tech-FH-Guangdong-Fenghua-Advanced-Tech-VHF060303HQ2N4CT02_C516464.html
footprint IND-0201 (0201 (0603M) Inductor)
pins: 1, 2

## VHF060303HQ2N4ST02
designator L?  Inductance: 2.4nH
Inductor, 2.4nH, SMD 0201; Manufacturer: FH (Guangdong Fenghua Advanced Tech); Manufacturer Part Number: VHF060303HQ2N4ST02; Package Size: 0201; JLCPCB Basic Part: No; JLCPCB Part Number: C516461; Supplier 1: LCSC; Category: Inductors; Supplier Part Number 1: C516461; RoHS: Yes; ComponentLink1Description: Datasheet; ComponentLink1URL: https://wmsc.lcsc.com/wmsc/upload/file/pdf/v2/lcsc/2302231030_FH--Guangdong-Fenghua-Advanced-Tech-VHF060303HQ2N4ST02_C516461.pdf; ComponentLink2Description: JLCPCB Part URL; ComponentLink2URL: https://jlcpcb.com/partdetail/C516461; ComponentLink3Description: LCSC Part URL; ComponentLink3URL: https://lcsc.com/product-detail/Inductors-SMD_FH-Guangdong-Fenghua-Advanced-Tech-FH-Guangdong-Fenghua-Advanced-Tech-VHF060303HQ2N4ST02_C516461.html
footprint IND-0201 (0201 (0603M) Inductor)
pins: 1, 2

## VHF060303HQ2N7BT02
designator L?  Inductance: 2.7nH
Inductor, 2.7nH, SMD 0201; Manufacturer: FH (Guangdong Fenghua Advanced Tech); Manufacturer Part Number: VHF060303HQ2N7BT02; Package Size: 0201; JLCPCB Basic Part: No; JLCPCB Part Number: C485790; Supplier 1: LCSC; Category: Inductors; Supplier Part Number 1: C485790; RoHS: Yes; ComponentLink1Description: Datasheet; ComponentLink1URL: https://wmsc.lcsc.com/wmsc/upload/file/pdf/v2/lcsc/2302231130_FH--Guangdong-Fenghua-Advanced-Tech-VHF060303HQ2N7BT02_C485790.pdf; ComponentLink2Description: JLCPCB Part URL; ComponentLink2URL: https://jlcpcb.com/partdetail/C485790; ComponentLink3Description: LCSC Part URL; ComponentLink3URL: https://lcsc.com/product-detail/Inductors-SMD_FH-Guangdong-Fenghua-Advanced-Tech-FH-Guangdong-Fenghua-Advanced-Tech-VHF060303HQ2N7BT02_C485790.html
footprint IND-0201 (0201 (0603M) Inductor)
pins: 1, 2

## VHF060303HQ2N7CT
designator L?  Inductance: 2.7nH
Inductor, 2.7nH, 25mΩ, 280mA, SMD 0201; Manufacturer: FH (Guangdong Fenghua Advanced Tech); Manufacturer Part Number: VHF060303HQ2N7CT; Self-Resonant Frequency: 9.2GHz; Q Factor: 14@500MHz; Package Size: 0201; JLCPCB Basic Part: No; JLCPCB Part Number: C485797; Supplier 1: LCSC; Category: Inductors; Supplier Part Number 1: C485797; Rated Current: 280mA; DC Resistance: 25mΩ; RoHS: Yes; ComponentLink1Description: Datasheet; ComponentLink1URL: https://wmsc.lcsc.com/wmsc/upload/file/pdf/v2/lcsc/2302231130_FH--Guangdong-Fenghua-Advanced-Tech-VHF060303HQ2N7CT_C485797.pdf; ComponentLink2Description: JLCPCB Part URL; ComponentLink2URL: https://jlcpcb.com/partdetail/C485797; ComponentLink3Description: LCSC Part URL; ComponentLink3URL: https://lcsc.com/product-detail/Inductors-SMD_FH-Guangdong-Fenghua-Advanced-Tech-FH-Guangdong-Fenghua-Advanced-Tech-VHF060303HQ2N7CT_C485797.html
footprint IND-0201 (0201 (0603M) Inductor)
pins: 1, 2

## VHF060303HQ2N7CT02
designator L?  Inductance: 2.7nH
Inductor, 2.7nH, 250mΩ, 300mA, SMD 0201; Manufacturer: FH (Guangdong Fenghua Advanced Tech); Manufacturer Part Number: VHF060303HQ2N7CT02; Self-Resonant Frequency: 9.2GHz; Q Factor: 14@500MHz; Package Size: 0201; JLCPCB Basic Part: No; JLCPCB Part Number: C485787; Supplier 1: LCSC; Category: Inductors; Supplier Part Number 1: C485787; Rated Current: 300mA; DC Resistance: 250mΩ; RoHS: Yes; ComponentLink1Description: Datasheet; ComponentLink1URL: https://wmsc.lcsc.com/wmsc/upload/file/pdf/v2/lcsc/2302231130_FH--Guangdong-Fenghua-Advanced-Tech-VHF060303HQ2N7CT02_C485787.pdf; ComponentLink2Description: JLCPCB Part URL; ComponentLink2URL: https://jlcpcb.com/partdetail/C485787; ComponentLink3Description: LCSC Part URL; ComponentLink3URL: https://lcsc.com/product-detail/Inductors-SMD_FH-Guangdong-Fenghua-Advanced-Tech-FH-Guangdong-Fenghua-Advanced-Tech-VHF060303HQ2N7CT02_C485787.html
footprint IND-0201 (0201 (0603M) Inductor)
pins: 1, 2

## VHF060303HQ2N7ST02
designator L?  Inductance: 2.7nH
Inductor, 2.7nH, SMD 0201; Manufacturer: FH (Guangdong Fenghua Advanced Tech); Manufacturer Part Number: VHF060303HQ2N7ST02; Package Size: 0201; JLCPCB Basic Part: No; JLCPCB Part Number: C2991169; Supplier 1: LCSC; Category: Inductors; Supplier Part Number 1: C2991169; RoHS: Yes; ComponentLink1Description: Datasheet; ComponentLink1URL: https://wmsc.lcsc.com/wmsc/upload/file/pdf/v2/lcsc/2302231130_FH--Guangdong-Fenghua-Advanced-Tech-VHF060303HQ2N7ST02_C2991169.pdf; ComponentLink2Description: JLCPCB Part URL; ComponentLink2URL: https://jlcpcb.com/partdetail/C2991169; ComponentLink3Description: LCSC Part URL; ComponentLink3URL: https://lcsc.com/product-detail/Inductors-SMD_FH-Guangdong-Fenghua-Advanced-Tech-FH-Guangdong-Fenghua-Advanced-Tech-VHF060303HQ2N7ST02_C2991169.html
footprint IND-0201 (0201 (0603M) Inductor)
pins: 1, 2

## VHF060303HQ3N0ST
designator L?  Inductance: 3nH
Inductor, 3nH, 260mΩ, 280mA, SMD 0201; Manufacturer: FH (Guangdong Fenghua Advanced Tech); Manufacturer Part Number: VHF060303HQ3N0ST; Package Size: 0201; JLCPCB Basic Part: No; JLCPCB Part Number: C211318; Supplier 1: LCSC; Category: Inductors; Supplier Part Number 1: C211318; Rated Current: 280mA; DC Resistance: 260mΩ; RoHS: Yes; ComponentLink1Description: Datasheet; ComponentLink1URL: https://wmsc.lcsc.com/wmsc/upload/file/pdf/v2/lcsc/2302231230_FH--Guangdong-Fenghua-Advanced-Tech-VHF060303HQ3N0ST_C211318.pdf; ComponentLink2Description: JLCPCB Part URL; ComponentLink2URL: https://jlcpcb.com/partdetail/C211318; ComponentLink3Description: LCSC Part URL; ComponentLink3URL: https://lcsc.com/product-detail/Inductors-SMD_FH-Guangdong-Fenghua-Advanced-Tech-FH-Guangdong-Fenghua-Advanced-Tech-VHF060303HQ3N0ST_C211318.html
footprint IND-0201 (0201 (0603M) Inductor)
pins: 1, 2

## VHF060303HQ3N0ST02
designator L?  Inductance: 3nH
Inductor, 3nH, SMD 0201; Manufacturer: FH (Guangdong Fenghua Advanced Tech); Manufacturer Part Number: VHF060303HQ3N0ST02; Package Size: 0201; JLCPCB Basic Part: No; JLCPCB Part Number: C778443; Supplier 1: LCSC; Category: Inductors; Supplier Part Number 1: C778443; RoHS: Yes; ComponentLink1Description: Datasheet; ComponentLink1URL: https://wmsc.lcsc.com/wmsc/upload/file/pdf/v2/lcsc/2302231130_FH--Guangdong-Fenghua-Advanced-Tech-VHF060303HQ3N0ST02_C778443.pdf; ComponentLink2Description: JLCPCB Part URL; ComponentLink2URL: https://jlcpcb.com/partdetail/C778443; ComponentLink3Description: LCSC Part URL; ComponentLink3URL: https://lcsc.com/product-detail/Inductors-SMD_FH-Guangdong-Fenghua-Advanced-Tech-FH-Guangdong-Fenghua-Advanced-Tech-VHF060303HQ3N0ST02_C778443.html
footprint IND-0201 (0201 (0603M) Inductor)
pins: 1, 2

## VHF060303HQ3N3BT
designator L?  Inductance: 3.3nH
Inductor, 3.3nH, 300mΩ, 270mA, SMD 0201; Manufacturer: FH (Guangdong Fenghua Advanced Tech); Manufacturer Part Number: VHF060303HQ3N3BT; Self-Resonant Frequency: 8.1GHz; Q Factor: 14@500MHz; Package Size: 0201; JLCPCB Basic Part: No; JLCPCB Part Number: C516462; Supplier 1: LCSC; Category: Inductors; Supplier Part Number 1: C516462; Rated Current: 270mA; DC Resistance: 300mΩ; RoHS: Yes; ComponentLink1Description: Datasheet; ComponentLink1URL: https://wmsc.lcsc.com/wmsc/upload/file/pdf/v2/lcsc/2302231030_FH--Guangdong-Fenghua-Advanced-Tech-VHF060303HQ3N3BT_C516462.pdf; ComponentLink2Description: JLCPCB Part URL; ComponentLink2URL: https://jlcpcb.com/partdetail/C516462; ComponentLink3Description: LCSC Part URL; ComponentLink3URL: https://lcsc.com/product-detail/Inductors-SMD_FH-Guangdong-Fenghua-Advanced-Tech-FH-Guangdong-Fenghua-Advanced-Tech-VHF060303HQ3N3BT_C516462.html
footprint IND-0201 (0201 (0603M) Inductor)
pins: 1, 2

## VHF060303HQ3N3BT02
designator L?  Inductance: 3.3nH
Inductor, 3.3nH, SMD 0201; Manufacturer: FH (Guangdong Fenghua Advanced Tech); Manufacturer Part Number: VHF060303HQ3N3BT02; Package Size: 0201; JLCPCB Basic Part: No; JLCPCB Part Number: C2991520; Supplier 1: LCSC; Category: Inductors; Supplier Part Number 1: C2991520; RoHS: Yes; ComponentLink1Description: Datasheet; ComponentLink1URL: https://wmsc.lcsc.com/wmsc/upload/file/pdf/v2/lcsc/2302231130_FH--Guangdong-Fenghua-Advanced-Tech-VHF060303HQ3N3BT02_C2991520.pdf; ComponentLink2Description: JLCPCB Part URL; ComponentLink2URL: https://jlcpcb.com/partdetail/C2991520; ComponentLink3Description: LCSC Part URL; ComponentLink3URL: https://lcsc.com/product-detail/Inductors-SMD_FH-Guangdong-Fenghua-Advanced-Tech-FH-Guangdong-Fenghua-Advanced-Tech-VHF060303HQ3N3BT02_C2991520.html
footprint IND-0201 (0201 (0603M) Inductor)
pins: 1, 2

## VHF060303HQ3N3ST02
designator L?  Inductance: 3.3nH
Inductor, 3.3nH, SMD 0201; Manufacturer: FH (Guangdong Fenghua Advanced Tech); Manufacturer Part Number: VHF060303HQ3N3ST02; Package Size: 0201; JLCPCB Basic Part: No; JLCPCB Part Number: C2991168; Supplier 1: LCSC; Category: Inductors; Supplier Part Number 1: C2991168; RoHS: Yes; ComponentLink1Description: Datasheet; ComponentLink1URL: https://wmsc.lcsc.com/wmsc/upload/file/pdf/v2/lcsc/2302231130_FH--Guangdong-Fenghua-Advanced-Tech-VHF060303HQ3N3ST02_C2991168.pdf; ComponentLink2Description: JLCPCB Part URL; ComponentLink2URL: https://jlcpcb.com/partdetail/C2991168; ComponentLink3Description: LCSC Part URL; ComponentLink3URL: https://lcsc.com/product-detail/Inductors-SMD_FH-Guangdong-Fenghua-Advanced-Tech-FH-Guangdong-Fenghua-Advanced-Tech-VHF060303HQ3N3ST02_C2991168.html
footprint IND-0201 (0201 (0603M) Inductor)
pins: 1, 2

## VHF060303HQ3N6BT02
designator L?  Inductance: 3.6nH
Inductor, 3.6nH, SMD 0201; Manufacturer: FH (Guangdong Fenghua Advanced Tech); Manufacturer Part Number: VHF060303HQ3N6BT02; Package Size: 0201; JLCPCB Basic Part: No; JLCPCB Part Number: C485795; Supplier 1: LCSC; Category: Inductors; Supplier Part Number 1: C485795; RoHS: Yes; ComponentLink1Description: Datasheet; ComponentLink1URL: https://wmsc.lcsc.com/wmsc/upload/file/pdf/v2/lcsc/2302231130_FH--Guangdong-Fenghua-Advanced-Tech-VHF060303HQ3N6BT02_C485795.pdf; ComponentLink2Description: JLCPCB Part URL; ComponentLink2URL: https://jlcpcb.com/partdetail/C485795; ComponentLink3Description: LCSC Part URL; ComponentLink3URL: https://lcsc.com/product-detail/Inductors-SMD_FH-Guangdong-Fenghua-Advanced-Tech-FH-Guangdong-Fenghua-Advanced-Tech-VHF060303HQ3N6BT02_C485795.html
footprint IND-0201 (0201 (0603M) Inductor)
pins: 1, 2

## VHF060303HQ3N6ST
designator L?  Inductance: 3.6nH
Inductor, 3.6nH, 380mΩ, 240mA, SMD 0201; Manufacturer: FH (Guangdong Fenghua Advanced Tech); Manufacturer Part Number: VHF060303HQ3N6ST; Package Size: 0201; JLCPCB Basic Part: No; JLCPCB Part Number: C211320; Supplier 1: LCSC; Category: Inductors; Supplier Part Number 1: C211320; Rated Current: 240mA; DC Resistance: 380mΩ; RoHS: Yes; ComponentLink1Description: Datasheet; ComponentLink1URL: https://wmsc.lcsc.com/wmsc/upload/file/pdf/v2/lcsc/2302231230_FH--Guangdong-Fenghua-Advanced-Tech-VHF060303HQ3N6ST_C211320.pdf; ComponentLink2Description: JLCPCB Part URL; ComponentLink2URL: https://jlcpcb.com/partdetail/C211320; ComponentLink3Description: LCSC Part URL; ComponentLink3URL: https://lcsc.com/product-detail/Inductors-SMD_FH-Guangdong-Fenghua-Advanced-Tech-FH-Guangdong-Fenghua-Advanced-Tech-VHF060303HQ3N6ST_C211320.html
footprint IND-0201 (0201 (0603M) Inductor)
pins: 1, 2

## VHF060303HQ3N9BT02
designator L?  Inductance: 3.9nH
Inductor, 3.9nH, SMD 0201; Manufacturer: FH(Guangdong Fenghua Advanced Tech); Manufacturer Part Number: VHF060303HQ3N9BT02; Package Size: 0201; JLCPCB Basic Part: No; JLCPCB Part Number: C778433; Supplier 1: LCSC; Category: Inductors; Supplier Part Number 1: C778433; RoHS: Yes; ComponentLink1Description: Datasheet; ComponentLink1URL: https://wmsc.lcsc.com/wmsc/upload/file/pdf/v2/lcsc/2302231030_FH--Guangdong-Fenghua-Advanced-Tech-VHF060303HQ3N9BT02_C778433.pdf; ComponentLink2Description: JLCPCB Part URL; ComponentLink2URL: https://jlcpcb.com/partdetail/C778433; ComponentLink3Description: LCSC Part URL; ComponentLink3URL: https://lcsc.com/product-detail/Inductors-SMD_FH-Guangdong-Fenghua-Advanced-Tech-FH-Guangdong-Fenghua-Advanced-Tech-VHF060303HQ3N9BT02_C778433.html
footprint IND-0201 (0201 (0603M) Inductor)
pins: 1, 2

## VHF060303HQ4N3BT02
designator L?  Inductance: 4.3nH
Inductor, 4.3nH, 440mΩ, 300mA, SMD 0201; Manufacturer: FH (Guangdong Fenghua Advanced Tech); Manufacturer Part Number: VHF060303HQ4N3BT02; Self-Resonant Frequency: 6.8GHz; Q Factor: 14@500MHz; Package Size: 0201; JLCPCB Basic Part: No; JLCPCB Part Number: C778435; Supplier 1: LCSC; Category: Inductors; Supplier Part Number 1: C778435; Rated Current: 300mA; DC Resistance: 440mΩ; RoHS: Yes; ComponentLink1Description: Datasheet; ComponentLink1URL: https://wmsc.lcsc.com/wmsc/upload/file/pdf/v2/lcsc/2302231030_FH--Guangdong-Fenghua-Advanced-Tech-VHF060303HQ4N3BT02_C778435.pdf; ComponentLink2Description: JLCPCB Part URL; ComponentLink2URL: https://jlcpcb.com/partdetail/C778435; ComponentLink3Description: LCSC Part URL; ComponentLink3URL: https://lcsc.com/product-detail/Inductors-SMD_FH-Guangdong-Fenghua-Advanced-Tech-FH-Guangdong-Fenghua-Advanced-Tech-VHF060303HQ4N3BT02_C778435.html
footprint IND-0201 (0201 (0603M) Inductor)
pins: 1, 2

## VHF060303HQ4N3ST02
designator L?  Inductance: 4.3nH
Inductor, 4.3nH, SMD 0201; Manufacturer: FH (Guangdong Fenghua Advanced Tech); Manufacturer Part Number: VHF060303HQ4N3ST02; Package Size: 0201; JLCPCB Basic Part: No; JLCPCB Part Number: C778437; Supplier 1: LCSC; Category: Inductors; Supplier Part Number 1: C778437; RoHS: Yes; ComponentLink1Description: Datasheet; ComponentLink1URL: https://wmsc.lcsc.com/wmsc/upload/file/pdf/v2/lcsc/2302231030_FH--Guangdong-Fenghua-Advanced-Tech-VHF060303HQ4N3ST02_C778437.pdf; ComponentLink2Description: JLCPCB Part URL; ComponentLink2URL: https://jlcpcb.com/partdetail/C778437; ComponentLink3Description: LCSC Part URL; ComponentLink3URL: https://lcsc.com/product-detail/Inductors-SMD_FH-Guangdong-Fenghua-Advanced-Tech-FH-Guangdong-Fenghua-Advanced-Tech-VHF060303HQ4N3ST02_C778437.html
footprint IND-0201 (0201 (0603M) Inductor)
pins: 1, 2

## VHF060303HQ4N7BT02
designator L?  Inductance: 4.7nH
Inductor, 4.7nH, 450mΩ, 300mA, SMD 0201; Manufacturer: FH (Guangdong Fenghua Advanced Tech); Manufacturer Part Number: VHF060303HQ4N7BT02; Self-Resonant Frequency: 6.2GHz; Q Factor: 14@500MHz; Package Size: 0201; JLCPCB Basic Part: No; JLCPCB Part Number: C516467; Supplier 1: LCSC; Category: Inductors; Supplier Part Number 1: C516467; Rated Current: 300mA; DC Resistance: 450mΩ; RoHS: Yes; ComponentLink1Description: Datasheet; ComponentLink1URL: https://wmsc.lcsc.com/wmsc/upload/file/pdf/v2/lcsc/2302231030_FH--Guangdong-Fenghua-Advanced-Tech-VHF060303HQ4N7BT02_C516467.pdf; ComponentLink2Description: JLCPCB Part URL; ComponentLink2URL: https://jlcpcb.com/partdetail/C516467; ComponentLink3Description: LCSC Part URL; ComponentLink3URL: https://lcsc.com/product-detail/Inductors-SMD_FH-Guangdong-Fenghua-Advanced-Tech-FH-Guangdong-Fenghua-Advanced-Tech-VHF060303HQ4N7BT02_C516467.html
footprint IND-0201 (0201 (0603M) Inductor)
pins: 1, 2

## VHF060303HQ4N7ST02
designator L?  Inductance: 4.7nH
Inductor, 4.7nH, 450mΩ, 300mA, SMD 0201; Manufacturer: FH (Guangdong Fenghua Advanced Tech); Manufacturer Part Number: VHF060303HQ4N7ST02; Self-Resonant Frequency: 6.2GHz; Q Factor: 14@500MHz; Package Size: 0201; JLCPCB Basic Part: No; JLCPCB Part Number: C778442; Supplier 1: LCSC; Category: Inductors; Supplier Part Number 1: C778442; Rated Current: 300mA; DC Resistance: 450mΩ; RoHS: Yes; ComponentLink1Description: Datasheet; ComponentLink1URL: https://wmsc.lcsc.com/wmsc/upload/file/pdf/v2/lcsc/2302231130_FH--Guangdong-Fenghua-Advanced-Tech-VHF060303HQ4N7ST02_C778442.pdf; ComponentLink2Description: JLCPCB Part URL; ComponentLink2URL: https://jlcpcb.com/partdetail/C778442; ComponentLink3Description: LCSC Part URL; ComponentLink3URL: https://lcsc.com/product-detail/Inductors-SMD_FH-Guangdong-Fenghua-Advanced-Tech-FH-Guangdong-Fenghua-Advanced-Tech-VHF060303HQ4N7ST02_C778442.html
footprint IND-0201 (0201 (0603M) Inductor)
pins: 1, 2

## VHF060303HQ5N1CT
designator L?  Inductance: 5.1nH
Inductor, 5.1nH, 460mΩ, 210mA, SMD 0201; Manufacturer: FH(Guangdong Fenghua Advanced Tech); Manufacturer Part Number: VHF060303HQ5N1CT; Self-Resonant Frequency: 5.9GHz; Q Factor: 14@500MHz; Package Size: 0201; JLCPCB Basic Part: No; JLCPCB Part Number: C516458; Supplier 1: LCSC; Category: Inductors; Supplier Part Number 1: C516458; Rated Current: 210mA; DC Resistance: 460mΩ; RoHS: Yes; ComponentLink1Description: Datasheet; ComponentLink1URL: https://wmsc.lcsc.com/wmsc/upload/file/pdf/v2/lcsc/2302231030_FH--Guangdong-Fenghua-Advanced-Tech-VHF060303HQ5N1CT_C516458.pdf; ComponentLink2Description: JLCPCB Part URL; ComponentLink2URL: https://jlcpcb.com/partdetail/C516458; ComponentLink3Description: LCSC Part URL; ComponentLink3URL: https://lcsc.com/product-detail/Inductors-SMD_FH-Guangdong-Fenghua-Advanced-Tech-FH-Guangdong-Fenghua-Advanced-Tech-VHF060303HQ5N1CT_C516458.html
footprint IND-0201 (0201 (0603M) Inductor)
pins: 1, 2

## VHF060303HQ5N1ST
designator L?  Inductance: 5.1nH
Inductor, 5.1nH, 460mΩ, 210mA, SMD 0201; Manufacturer: FH(Guangdong Fenghua Advanced Tech); Manufacturer Part Number: VHF060303HQ5N1ST; Package Size: 0201; JLCPCB Basic Part: No; JLCPCB Part Number: C211324; Supplier 1: LCSC; Category: Inductors; Supplier Part Number 1: C211324; Rated Current: 210mA; DC Resistance: 460mΩ; RoHS: Yes; ComponentLink1Description: Datasheet; ComponentLink1URL: https://wmsc.lcsc.com/wmsc/upload/file/pdf/v2/lcsc/2302231230_FH--Guangdong-Fenghua-Advanced-Tech-VHF060303HQ5N1ST_C211324.pdf; ComponentLink2Description: JLCPCB Part URL; ComponentLink2URL: https://jlcpcb.com/partdetail/C211324; ComponentLink3Description: LCSC Part URL; ComponentLink3URL: https://lcsc.com/product-detail/Inductors-SMD_FH-Guangdong-Fenghua-Advanced-Tech-FH-Guangdong-Fenghua-Advanced-Tech-VHF060303HQ5N1ST_C211324.html
footprint IND-0201 (0201 (0603M) Inductor)
pins: 1, 2

## VHF060303HQ5N6CT
designator L?  Inductance: 5.6nH
Inductor, 5.6nH, 460mΩ, 210mA, SMD 0201; Manufacturer: FH (Guangdong Fenghua Advanced Tech); Manufacturer Part Number: VHF060303HQ5N6CT; Self-Resonant Frequency: 5.5GHz; Q Factor: 14@500MHz; Package Size: 0201; JLCPCB Basic Part: No; JLCPCB Part Number: C485775; Supplier 1: LCSC; Category: Inductors; Supplier Part Number 1: C485775; Rated Current: 210mA; DC Resistance: 460mΩ; RoHS: Yes; ComponentLink1Description: Datasheet; ComponentLink1URL: https://wmsc.lcsc.com/wmsc/upload/file/pdf/v2/lcsc/2302231130_FH--Guangdong-Fenghua-Advanced-Tech-VHF060303HQ5N6CT_C485775.pdf; ComponentLink2Description: JLCPCB Part URL; ComponentLink2URL: https://jlcpcb.com/partdetail/C485775; ComponentLink3Description: LCSC Part URL; ComponentLink3URL: https://lcsc.com/product-detail/Inductors-SMD_FH-Guangdong-Fenghua-Advanced-Tech-FH-Guangdong-Fenghua-Advanced-Tech-VHF060303HQ5N6CT_C485775.html
footprint IND-0201 (0201 (0603M) Inductor)
pins: 1, 2

## VHF060303HQ5N6ST
designator L?  Inductance: 5.6nH
Inductor, 5.6nH, 460mΩ, 210mA, SMD 0201; Manufacturer: FH (Guangdong Fenghua Advanced Tech); Manufacturer Part Number: VHF060303HQ5N6ST; Package Size: 0201; JLCPCB Basic Part: No; JLCPCB Part Number: C211325; Supplier 1: LCSC; Category: Inductors; Supplier Part Number 1: C211325; Rated Current: 210mA; DC Resistance: 460mΩ; RoHS: Yes; ComponentLink1Description: Datasheet; ComponentLink1URL: https://wmsc.lcsc.com/wmsc/upload/file/pdf/v2/lcsc/2302231230_FH--Guangdong-Fenghua-Advanced-Tech-VHF060303HQ5N6ST_C211325.pdf; ComponentLink2Description: JLCPCB Part URL; ComponentLink2URL: https://jlcpcb.com/partdetail/C211325; ComponentLink3Description: LCSC Part URL; ComponentLink3URL: https://lcsc.com/product-detail/Inductors-SMD_FH-Guangdong-Fenghua-Advanced-Tech-FH-Guangdong-Fenghua-Advanced-Tech-VHF060303HQ5N6ST_C211325.html
footprint IND-0201 (0201 (0603M) Inductor)
pins: 1, 2

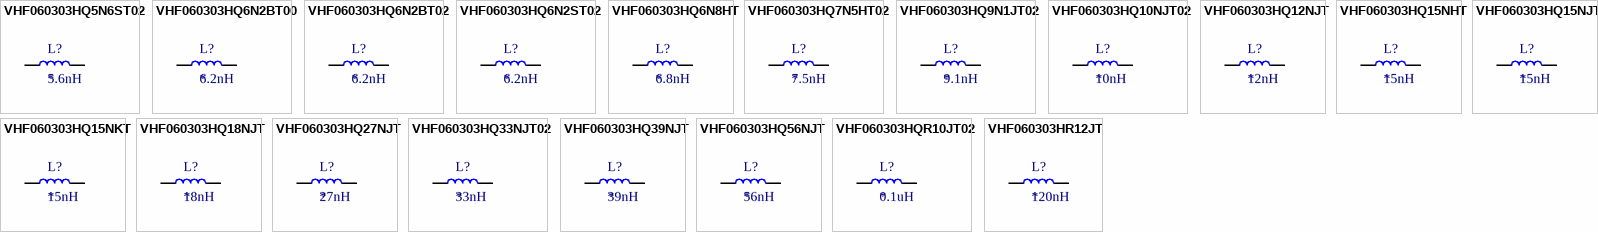
[diagram p11: symbols VHF060303HQ5N6ST02 to VHF060303HR12JT]

## VHF060303HQ5N6ST02
designator L?  Inductance: 5.6nH
Inductor, 5.6nH, SMD 0201; Manufacturer: FH (Guangdong Fenghua Advanced Tech); Manufacturer Part Number: VHF060303HQ5N6ST02; Package Size: 0201; JLCPCB Basic Part: No; JLCPCB Part Number: C485780; Supplier 1: LCSC; Category: Inductors; Supplier Part Number 1: C485780; RoHS: Yes; ComponentLink1Description: Datasheet; ComponentLink1URL: https://wmsc.lcsc.com/wmsc/upload/file/pdf/v2/lcsc/2302231130_FH--Guangdong-Fenghua-Advanced-Tech-VHF060303HQ5N6ST02_C485780.pdf; ComponentLink2Description: JLCPCB Part URL; ComponentLink2URL: https://jlcpcb.com/partdetail/C485780; ComponentLink3Description: LCSC Part URL; ComponentLink3URL: https://lcsc.com/product-detail/Inductors-SMD_FH-Guangdong-Fenghua-Advanced-Tech-FH-Guangdong-Fenghua-Advanced-Tech-VHF060303HQ5N6ST02_C485780.html
footprint IND-0201 (0201 (0603M) Inductor)
pins: 1, 2

## VHF060303HQ6N2BT00
designator L?  Inductance: 6.2nH
Inductor, 6.2nH, 480mΩ, 250mA, SMD 0201; Manufacturer: FH (Guangdong Fenghua Advanced Tech); Manufacturer Part Number: VHF060303HQ6N2BT00; Self-Resonant Frequency: 5.1GHz; Q Factor: 14@500MHz; Package Size: 0201; JLCPCB Basic Part: No; JLCPCB Part Number: C485785; Supplier 1: LCSC; Category: Inductors; Supplier Part Number 1: C485785; Rated Current: 250mA; DC Resistance: 480mΩ; RoHS: Yes; ComponentLink1Description: Datasheet; ComponentLink1URL: https://wmsc.lcsc.com/wmsc/upload/file/pdf/v2/lcsc/2302221900_FH--Guangdong-Fenghua-Advanced-Tech-VHF060303HQ6N2BT00_C485785.pdf; ComponentLink2Description: JLCPCB Part URL; ComponentLink2URL: https://jlcpcb.com/partdetail/C485785; ComponentLink3Description: LCSC Part URL; ComponentLink3URL: https://lcsc.com/product-detail/Inductors-SMD_FH-Guangdong-Fenghua-Advanced-Tech-FH-Guangdong-Fenghua-Advanced-Tech-VHF060303HQ6N2BT00_C485785.html
footprint IND-0201 (0201 (0603M) Inductor)
pins: 1, 2

## VHF060303HQ6N2BT02
designator L?  Inductance: 6.2nH
Inductor, 6.2nH, SMD 0201; Manufacturer: FH (Guangdong Fenghua Advanced Tech); Manufacturer Part Number: VHF060303HQ6N2BT02; Package Size: 0201; JLCPCB Basic Part: No; JLCPCB Part Number: C485786; Supplier 1: LCSC; Category: Inductors; Supplier Part Number 1: C485786; RoHS: Yes; ComponentLink1Description: Datasheet; ComponentLink1URL: https://wmsc.lcsc.com/wmsc/upload/file/pdf/v2/lcsc/2302231130_FH--Guangdong-Fenghua-Advanced-Tech-VHF060303HQ6N2BT02_C485786.pdf; ComponentLink2Description: JLCPCB Part URL; ComponentLink2URL: https://jlcpcb.com/partdetail/C485786; ComponentLink3Description: LCSC Part URL; ComponentLink3URL: https://lcsc.com/product-detail/Inductors-SMD_FH-Guangdong-Fenghua-Advanced-Tech-FH-Guangdong-Fenghua-Advanced-Tech-VHF060303HQ6N2BT02_C485786.html
footprint IND-0201 (0201 (0603M) Inductor)
pins: 1, 2